# Altium schematic symbol library Schlib1.SchLib: 3 symbols
Pins are listed as number, name and electrical type; pins without a type are passive.

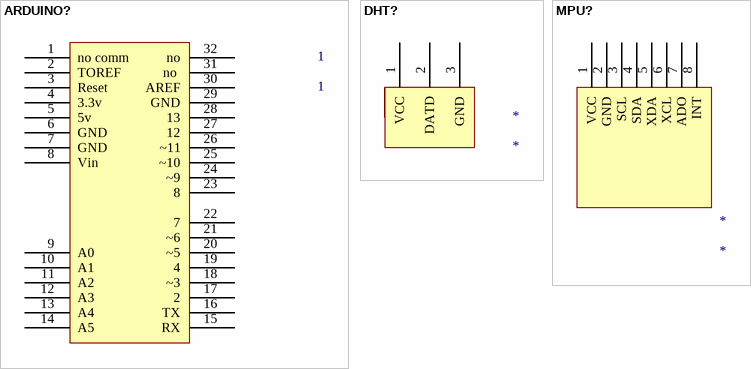
[diagram p0: symbols ARDUINO? to MPU?]

## ARDUINO?
designator 1, comment 1
Parameter 1: ARDUINO
footprint Arduino ieee
footprint Arduino ieee
pins: 1 no comm, 2 TOREF, 3 Reset, 4 3.3v, 5 5v, 6 GND, 7 GND, 8 Vin, 9 A0, 10 A1, 11 A2, 12 A3, 13 A4, 14 A5, 15 RX, 16 TX, 17 2, 18 ~3, 19 4, 20 ~5, 21 ~6, 22 7, 23 8, 24 ~9, 25 ~10, 26 ~11, 27 12, 28 13, 29 GND, 30 AREF, 31 no , 32 no

## DHT?
designator *
Parameter 1: DHT?
footprint DHT - duplicate
pins: 1 VCC, 2 DATD, 3 GND

## MPU?
designator *
Parameter 1: mpu
footprint MPU
pins: 1 VCC, 2 GND, 3 SCL, 4 SDA, 5 XDA, 6 XCL, 7 ADO, 8 INT